# EAGLE library part BMA280 (library 000001)
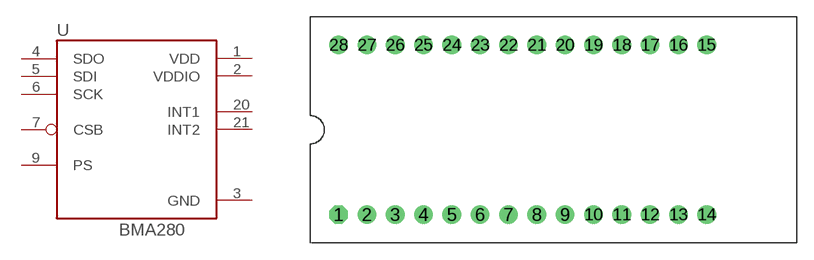
[diagram p127: symbol with the pads of BMA280SB; footprint BMA280SB]

Designator prefix -

## BMA280  [BMA280SB]
1  VDD  pwr
2  VDDIO  pwr
3  GND
4  SDO
5  SDI
6  SCK  in
7  CSB  in
9  PS  in
20  INT1  out
21  INT2  out

## Footprint BMA280SB (pad centres in mm)
drill 0.7 pad 1.676 octagon: 1 -16.51,-7.62
drill 0.7 pad 1.676 round: 2 -13.97,-7.62; 3 -11.43,-7.62; 4 -8.89,-7.62; 5 -6.35,-7.62; 6 -3.81,-7.62; 7 -1.27,-7.62; 8 1.27,-7.62; 9 3.81,-7.62; 10 6.35,-7.62; 11 8.89,-7.62; 12 11.43,-7.62; 13 13.97,-7.62; 14 16.51,-7.62; 15 16.51,7.62; 16 13.97,7.62; 17 11.43,7.62; 18 8.89,7.62; 19 6.35,7.62; 20 3.81,7.62; 21 1.27,7.62; 22 -1.27,7.62; 23 -3.81,7.62; 24 -6.35,7.62; 25 -8.89,7.62; 26 -11.43,7.62; 27 -13.97,7.62; 28 -16.51,7.62